# EAGLE library part PIN_2X13 (library FaBo-PIN)
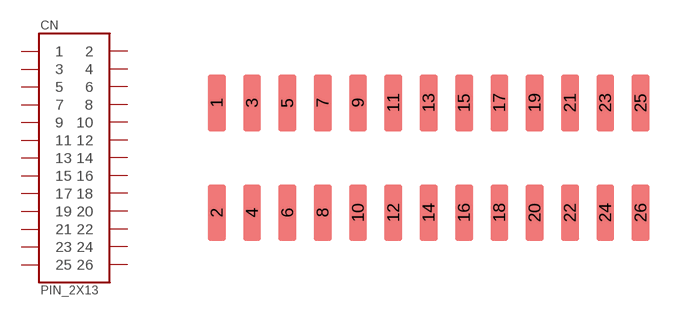
[diagram p20: symbol with the pads of PIN_2X13_1.27_SMD; footprint PIN_2X13_1.27_SMD]

Designator prefix CN

## PIN_2X13  [PIN_2X13_1.27_SMD]
1  1
2  2
3  3
4  4
5  5
6  6
7  7
8  8
9  9
10  10
11  11
12  12
13  13
14  14
15  15
16  16
17  17
18  18
19  19
20  20
21  21
22  22
23  23
24  24
25  25
26  26

## Footprint PIN_2X13_1.27_SMD (pad centres in mm)
smd 0.635 x 2.032: 1 -7.62,2; 2 -7.62,-1.95; 3 -6.35,2; 4 -6.35,-1.95; 5 -5.08,2; 6 -5.08,-1.95; 7 -3.81,2; 8 -3.81,-1.95; 9 -2.54,2; 10 -2.54,-1.95; 11 -1.27,2; 12 -1.27,-1.95; 13 0,2; 14 0,-1.95; 15 1.27,2; 16 1.27,-1.95; 17 2.54,2; 18 2.54,-1.95; 19 3.81,2; 20 3.81,-1.95; 21 5.08,2; 22 5.08,-1.95; 23 6.35,2; 24 6.35,-1.95; 25 7.62,2; 26 7.62,-1.95